# Altium footprint library INF-PG-DSO-36-29L.PcbLib: 1 footprints
Each footprint in its own frame and in the unit in brackets; x right, y up, seen from the top. Pads: shape width x height; smd on the part's side, far side on the other; paste and mask are expansions set on the pad; w line width, h text height; cw(c..) or ccw(c..) is an arc to the next point about the centre after c.
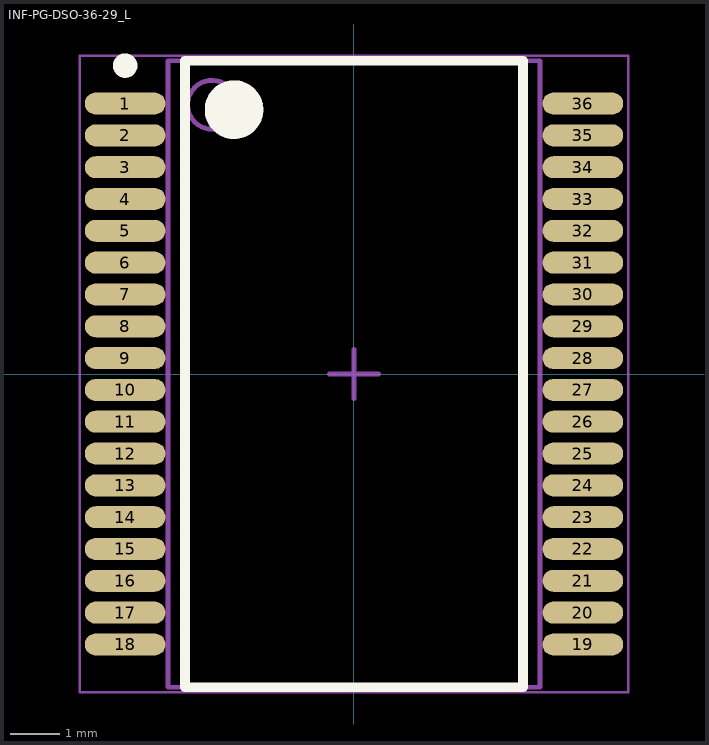
[diagram p0: the footprint, top view; thin cyan lines are the x and y axes]

## INF-PG-DSO-36-29_L [mm] "SOP, 36-Leads, Body 12.7x7.5mm, Pitch 0.65mm, IPC High Density"
height 2.65
pads (36):
  oval 1.65x0.45 smd: 1(-4.675,5.525) 2(-4.675,4.875) 3(-4.675,4.225) 4(-4.675,3.575) 5(-4.675,2.925) 6(-4.675,2.275) 7(-4.675,1.625) 8(-4.675,0.975) 9(-4.675,0.325) 10(-4.675,-0.325) 11(-4.675,-0.975) 12(-4.675,-1.625) 13(-4.675,-2.275) 14(-4.675,-2.925) 15(-4.675,-3.575) 16(-4.675,-4.225) 17(-4.675,-4.875) 18(-4.675,-5.525) 19(4.675,-5.525) 20(4.675,-4.875) 21(4.675,-4.225) 22(4.675,-3.575) 23(4.675,-2.925) 24(4.675,-2.275) 25(4.675,-1.625) 26(4.675,-0.975) 27(4.675,-0.325) 28(4.675,0.325) 29(4.675,0.975) 30(4.675,1.625) 31(4.675,2.275) 32(4.675,2.925) 33(4.675,3.575) 34(4.675,4.225) 35(4.675,4.875) 36(4.675,5.525)
Top Overlay:
  circle w0.6: c-2.45,5.4 r0.3
  circle w0.25: c-4.675,6.3 r0.125
  lines w0.2: -3.45,-6.4 3.45,-6.4 3.45,6.4 -3.45,6.4 -3.45,-6.4
Mechanical 13:
  circle w0.1: c-2.9,5.5 r0.5
  lines w0.1: -3.8,-6.4 3.8,-6.4 3.8,6.4 -3.8,6.4 -3.8,-6.4
Mechanical 15:
  lines w0.05: -5.6,-6.5 5.6,-6.5 5.6,6.5 -5.6,6.5 -5.6,-6.5
  lines w0.1: -0.5,0 0.5,0 ; 0,-0.5 0,0.5
3D body: height 2.65, standoff 0.1, extent -3.8,-6.4 3.8,6.4